# Altium integrated library BMS_Lib.IntLib: 71 symbols (part 2 of 3)
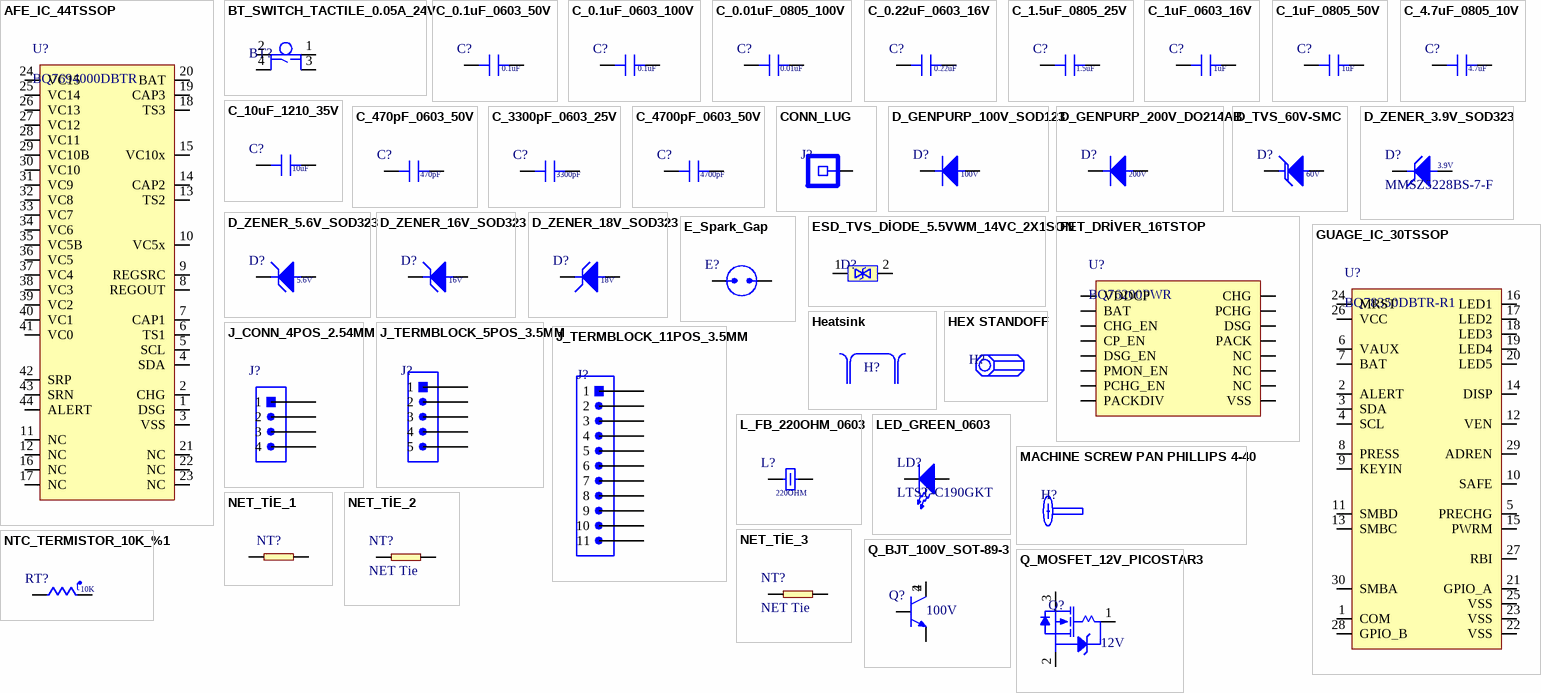
[diagram p2: symbols AFE_IC_44TSSOP to Q_MOSFET_12V_PICOSTAR3]

## J_CONN_4POS_2.54MM
designator J?, comment 0022053041  (value not drawn)
KK 254 Solid Header, Right-Angle, with Friction Lock, 4 Circuits, Tin (Sn) Plating; Manufacturer: Molex; Contact Resistance: 10mR; Max Current Rating: 4A; Voltage Rating: 250V; Number of Positions: 4; Gender: Male; Insulation Resistance: 50GR; Pitch: 2.54mm; Approvals: UL,CSA; Glow Wire Compliant: Non-compliant; Supplier: Mouser; Supplier Part Number: 538-22-05-3041; Manufacturer Part Number: 22-05-3041; RoHS: Yes; Category: Headers and Wire Housings; Stock: 16509; Pricing: 1=0,68, 10=0,597, 50=0,597, 100=0,493, 1000=0,353, 10000=0,31 (USD); Mounting Technology: Through Hole; Contact Plating: Tin,Copper; Contact Material: Brass; Color: White; Housing Color: White; Housing Material: Nylon; Min Operating Temperature: 0°C; Max Operating Temperature: 75°C; Number of Rows: 1; Packaging: Bulk; Current Rating: 4A; Package Quantity: 12000; Contact Gender: Male; Termination: Solder; Number of Contacts: 4; Orientation: Right Angle; Voltage Rating (DC): 250V; Number of Circuits: 4; Fastening Type: Friction; Series: KK® 7478; Contact Type: Male Pin; Length: 10.16mm; Height: 6.35mm; Depth: 12.83mm; Contact Mating Length: 0.264inch; Radiation Hardening: No; Halogen Free: Low Halogen; Lead Free: Lead Free; Flammability Rating: UL94 V-0; RoHS Compliant: Yes; Reach SVHC Compliant: Unknown
footprint CONN_4
pins: 1, 2, 3, 4

## J_TERMBLOCK_5POS_3.5MM
designator J?, comment 0395021005  (value not drawn)
Conn Shrouded Header (4 Sides) HDR 5 POS 3.5mm Solder RA Side Entry Thru-Hole Eurostyle™; Manufacturer: Molex; Number of Circuits: 5; Contact Resistance: 8mR; Number of Levels: 1; Current: 8A; Voltage: 300V; Supplier: Mouser; Supplier Part Number: 538-39502-1005; Manufacturer Part Number: 0395021005; RoHS: Yes; Category: Terminal Blocks; Stock: 4358; Pricing: 1=1,27, 10=1,05, 50=1,05, 100=0,911, 1000=0,767, 10000=0,736 (USD); Mounting Technology: Through Hole; Color: Black; Contact Plating: Tin; Contact Material: Brass; Housing Color: Black; Housing Material: Polyamide; Min Operating Temperature: -40°C; Max Operating Temperature: 105°C; Orientation: Right Angle; Number of Rows: 1; Number of Positions Per Level: 5; Termination: Solder; Number of Positions: 5; Number of Contacts: 5; Series: Eurostyle ESE 39502; Length: 18.89mm; Width: 9.2mm; Pitch: 3.5mm; Depth: 9.2mm; RoHS Compliant: Yes; Reach SVHC Compliant: Yes; ELV: Compliant; Halogen Free: Low Halogen; Lead Free: Lead Free; Flammability Rating: UL94 V-0; ComponentLink1URL: https://datasheet.ciiva.com/796/395021002-sd-796528.pdf?src-supplier=Digikey; ComponentLink1Description: https://datasheet.ciiva.com/796/395021002-sd-796528.pdf?src-supplier=Digikey; ComponentLink2URL: https://datasheet.ciiva.com/30070/193400395021005-terminal-blocks-30070143.pdf?src-supplier=Onlinecomponents.com; ComponentLink2Description: https://datasheet.ciiva.com/30070/193400395021005-terminal-blocks-30070143.pdf?src-supplier=Onlinecomponents.com
footprint TB_5
pins: 1, 2, 3, 4, 5

## J_TERMBLOCK_11POS_3.5MM
designator J?, comment 0395021011  (value not drawn)
Conn Shrouded Header (4 Sides) HDR 11 POS 3.5mm Solder RA Thru-Hole Eurostyle™; Manufacturer: Molex; Contact Resistance: 8mR; Number of Positions: 11; Number of Levels: 1; Current: 8A; Voltage: 300V; Gender: Male; Supplier: Mouser; Supplier Part Number: 538-39502-1011; Manufacturer Part Number: 0395021011; RoHS: Yes; Category: Uncategorized; Stock: 342; Pricing: 1=2,11, 10=1,87, 50=1,84, 100=1,6, 1000=1,48, 10000=1,37 (USD); Contact Plating: Tin; Contact Material: Brass; Housing Color: Black; Housing Material: Polyamide; Color: Black; Min Operating Temperature: -40°C; Max Operating Temperature: 105°C; Number of Rows: 1; Termination: Solder; Orientation: Right Angle; Series: Eurostyle ESE 39502; Number of Positions Per Level: 11; Length: 39.89mm; Pitch: 3.5mm; Depth: 9.2mm; Flammability Rating: UL94 V-0; RoHS Compliant: Yes; ComponentLink1URL: http://components.arrow.com/part/dataview/44158219S9305424N3303?src-supplier=Arrow+Electronics; ComponentLink1Description: http://components.arrow.com/part/dataview/44158219S9305424N3303?src-supplier=Arrow+Electronics; ComponentLink2URL: https://www.molex.com/pdm_docs/sd/395021002_sd.pdf?src-supplier=Digikey; ComponentLink2Description: https://www.molex.com/pdm_docs/sd/395021002_sd.pdf?src-supplier=Digikey
footprint TB_11
pins: 1, 2, 3, 4, 5, 6, 7, 8, 9, 10, 11

## L_FB_220OHM_0603
designator L?, comment value 220OHM  (hidden comment: BLM18SG221TN1D)
Ferrite Beads Multi-Layer 220Ohm 25% 100MHz 2.5A 40mOhm DCR 0603 Paper T/R; Manufacturer: Murata; Material: Steel,Ferrite; Impedance: 220R; DC Resistance (DCR): 40mR; Number of Lines: 1; Supplier: Mouser; Supplier Part Number: 81-BLM18SG221TN1D; Manufacturer Part Number: BLM18SG221TN1D; RoHS: Yes; Category: Ferrite Beads and Chips; Stock: 535751; Pricing: 1=0,13, 10=0,071, 50=0,071, 100=0,049, 1000=0,036, 10000=0,03 (USD); Case/Package: 0603; Pins: 2; Core Material: Ferrite; Case Code (Metric): 1608; Case Code (Imperial): 0603; Weight: 7.1E-05oz; Min Operating Temperature: -55°C; Max Operating Temperature: 125°C; Tolerance: 25%; Max DC Current: 2.5A; Package Quantity: 1; Max Current Rating: 2.5A; Packaging: Tape and Reel; Current Rating: 2.5A; Termination: SMD/SMT; Test Frequency: 100MHz; DC Current: 2.5A; Number of Circuits: 1; Series: BLM18S; DC Resistance-Max: 40mR; RMS Current (Irms): 2.5A; ESR: 40mR; Length: 1.6mm; Width: 0.8mm; Height: 0.8mm; Depth: 0.95mm; Radiation Hardening: No; Reach SVHC Compliant: No; Lead Free: Lead Free; RoHS Compliant: Yes; ComponentLink1URL: https://datasheet.ciiva.com/1561/c31e-1561456.pdf?src-supplier=Newark; ComponentLink1Description: https://datasheet.ciiva.com/1561/c31e-1561456.pdf?src-supplier=Newark; ComponentLink2URL: https://datasheet.ciiva.com/41449/001171724-da-01-en-chip-drossel0603-220r-2500ma-1-6x0-8mm-41449352.pdf?src-supplier=Conrad; ComponentLink2Description: https://datasheet.ciiva.com/41449/001171724-da-01-en-chip-drossel0603-220r-2500ma-1-6x0-8mm-41449352.pdf?src-supplier=Conrad; ComponentLink3URL: https://datasheet.ciiva.com/41449/001172313-da-01-en-drossel-0603-220r-21-6x0-8mm-10000st-41449677.pdf?src-supplier=Conrad; ComponentLink3Description: https://datasheet.ciiva.com/41449/001172313-da-01-en-drossel-0603-220r-21-6x0-8mm-10000st-41449677.pdf?src-supplier=Conrad; ComponentLink4URL: https://datasheet.ciiva.com/14122/blm-series-eng-tds-14122910.pdf?src-supplier=Distrelec; ComponentLink4Description: https://datasheet.ciiva.com/14122/blm-series-eng-tds-14122910.pdf?src-supplier=Distrelec; ComponentLink5URL: https://datasheet.ciiva.com/8508/l0110s0100blm18s-8508310.pdf?src-supplier=Avnet; ComponentLink5Description: https://datasheet.ciiva.com/8508/l0110s0100blm18s-8508310.pdf?src-supplier=Avnet; ComponentLink6URL: https://datasheet.ciiva.com/8021/5151-8021517.pdf?src-supplier=Element14; ComponentLink6Description: https://datasheet.ciiva.com/8021/5151-8021517.pdf?src-supplier=Element14; ComponentLink7URL: https://datasheet.ciiva.com/8021/5151-8021519.pdf?src-supplier=Element14; ComponentLink7Description: https://datasheet.ciiva.com/8021/5151-8021519.pdf?src-supplier=Element14; ComponentLink8URL: https://datasheet.ciiva.com/1012/l0110s0100blm18s-1012627.pdf?src-supplier=Digikey; ComponentLink8Description: https://datasheet.ciiva.com/1012/l0110s0100blm18s-1012627.pdf?src-supplier=Digikey; ComponentLink9URL: https://datasheet.ciiva.com/1012/l0110s0100blm18s-1012626.pdf?src-supplier=Digikey; ComponentLink9Description: https://datasheet.ciiva.com/1012/l0110s0100blm18s-1012626.pdf?src-supplier=Digikey; ComponentLink10URL: https://datasheet.ciiva.com/1012/l0110s0100blm18s-1012628.pdf?src-supplier=Digikey; ComponentLink10Description: https://datasheet.ciiva.com/1012/l0110s0100blm18s-1012628.pdf?src-supplier=Digikey; ComponentLink11URL: https://datasheet.ciiva.com/16204/l0110s0100blm18s-16204029.pdf?src-supplier=Future+Electronics; ComponentLink11Description: https://datasheet.ciiva.com/16204/l0110s0100blm18s-16204029.pdf?src-supplier=Future+Electronics
footprint L_0603
pins: 1, 2

## LED_GREEN_0603
designator LD?, comment LTST-C190GKT
LED Uni-Color Green 565nm 2-Pin Chip LED T/R; Manufacturer: Vishay Lite-On; Lens Color: Colorless; Luminous Intensity: 6mcd; Forward Voltage: 2.1V; Viewing Angle: 130°; Lens Style: Flat,Diffused,Colorless,Rectangular,Clear; Forward Current: 30mA; Dominant Wavelength: 569nm; Test Current: 10mA; Lens Transparency: Clear; Number of Elements: 1; Power Dissipation: 100mW; Reverse Voltage: 5V; Voltage: 2V; Lens Size: 0.8mm; Supplier: Future Electronics; Supplier Part Number: 3106685; Manufacturer Part Number: LTST-C190GKT; RoHS: Yes; Category: LEDs; Stock: 190; Pricing: 1=0,184, 15=0,137, 100=0,104, 400=0,0802, 2000=0,0524 (USD); Mounting Technology: Surface Mount; Case/Package: 0603; Pins: 2; Color: Green; Case Code (Metric): 1608; Case Code (Imperial): 0603; Min Operating Temperature: -55°C; Max Operating Temperature: 85°C; Package Quantity: 1; Packaging: Tape and Reel; Illumination Color: Green; Wavelength: 565nm; Number of LEDs: 1; Power Rating: 100mW; Series: -; Length: 1.6mm; Width: 0.8mm; Height: 0.9mm; Depth: 0.8mm; Radiation Hardening: No; Lead Free: Lead Free; RoHS Compliant: Yes; ComponentLink1URL: https://datasheet.ciiva.com/2109/ltst-c190gkt-2109985.pdf?src-supplier=Digikey; ComponentLink1Description: https://datasheet.ciiva.com/2109/ltst-c190gkt-2109985.pdf?src-supplier=Digikey; ComponentLink2URL: https://datasheet.ciiva.com/11775/0900766b80dc02a6-11775616.pdf?src-supplier=Rs; ComponentLink2Description: https://datasheet.ciiva.com/11775/0900766b80dc02a6-11775616.pdf?src-supplier=Rs; ComponentLink3URL: https://datasheet.ciiva.com/12403/lite-on-ltst-c190gkt-187204-12403884.pdf?src-supplier=Mouser; ComponentLink3Description: https://datasheet.ciiva.com/12403/lite-on-ltst-c190gkt-187204-12403884.pdf?src-supplier=Mouser; ComponentLink4URL: https://datasheet.ciiva.com/16392/lite-on20ltst-c190gkt-16392818.pdf?src-supplier=Future+Electronics; ComponentLink4Description: https://datasheet.ciiva.com/16392/lite-on20ltst-c190gkt-16392818.pdf?src-supplier=Future+Electronics; ComponentLink5URL: https://datasheet.ciiva.com/2109/ltst-c190gkt-2109986.pdf?src-supplier=Digikey; ComponentLink5Description: https://datasheet.ciiva.com/2109/ltst-c190gkt-2109986.pdf?src-supplier=Digikey; ComponentLink6URL: https://datasheet.ciiva.com/2109/ltst-c190gkt-2109987.pdf?src-supplier=Digikey; ComponentLink6Description: https://datasheet.ciiva.com/2109/ltst-c190gkt-2109987.pdf?src-supplier=Digikey
footprint LED_0603
pins: 1, 2

## MACHINE SCREW PAN PHILLIPS 4-40
designator H?, comment NY PMS 440 0025 PH  (value not drawn)
Machine Screw Pan Phillips 4-40; Manufacturer: Building Fasteners; Supplier: Digikey; Supplier Part Number: H542-ND; Manufacturer Part Number: NY PMS 440 0025 PH; RoHS: No; Category: Screws and Fasteners; Stock: 49239; Pricing: 100=0,1653, 1000=0,13225 (USD); ComponentLink1URL: http://www.fasnetdirect.com/refguide/Nylpanms.pdf?src-supplier=Digikey; ComponentLink1Description: http://www.fasnetdirect.com/refguide/Nylpanms.pdf?src-supplier=Digikey
footprint PEN

## NET_TİE_1
designator NT?, comment Net Tie  (value not drawn)  (net tie)
Single point connection between nets.
footprint NET_TİE_1
pins: 1, 2

## NET_TİE_2
designator NT?, comment NET Tie  (net tie)
Single point connection between nets.
footprint NET_TİE_2
pins: 1, 2

## NET_TİE_3
designator NT?, comment NET Tie  (net tie)
Single point connection between nets.
footprint NET_TİE_3
pins: 1, 2

## NTC_TERMISTOR_10K_%1
designator RT?, comment value 10K  (hidden comment: 103AT-2)
Thermistor NTC 10KOhm 1% 2-Pin; Manufacturer: Semitec; Supplier: Mouser; Supplier Part Number: 954-103AT-2; Manufacturer Part Number: 103AT-2; RoHS: Yes; Category: Thermistors; Stock: 31131; Pricing: 1=0,84, 10=0,64, 50=0,64, 100=0,453, 1000=0,344, 10000=0,282 (USD); Case/Package: 72Case; Pins: 2; Min Operating Temperature: -50°C; Max Operating Temperature: 110°C; Packaging: Bulk; Tolerance: 1%; Termination: Radial; Series: AT; Length: 17mm; Width: 3.7mm; Height: 2.4mm; Lead Pitch: 2.54mm; RoHS Compliant: Yes; ComponentLink1URL: https://datasheet.ciiva.com/4505/semitec-atthermistor-371460-4505142.pdf?src-supplier=Mouser; ComponentLink1Description: https://datasheet.ciiva.com/4505/semitec-atthermistor-371460-4505142.pdf?src-supplier=Mouser
footprint NTC
pins: 1, 2
text: t

## Q_BJT_100V_SOT-89-3
designator Q?, comment Voltage: 100V  (hidden comment: ZXTN19100CZTA)
TRANS NPN 100V 5.25A SOT89; Manufacturer: Diodes Zetex; Supplier: Mouser; Supplier Part Number: 621-ZXTN19100CZTA; Manufacturer Part Number: ZXTN19100CZTA; RoHS: Yes; Category: BJTs; Stock: 1677; Pricing: 1=0,63, 10=0,551, 50=0,551, 100=0,401, 1000=0,319, 10000=0,283 (USD); ComponentLink1URL: https://datasheet.ciiva.com/980/zxtn19100cz-980400.pdf?src-supplier=Digikey; ComponentLink1Description: https://datasheet.ciiva.com/980/zxtn19100cz-980400.pdf?src-supplier=Digikey; ComponentLink2URL: https://datasheet.ciiva.com/11207/zxtn19100cz-11207318.pdf?src-supplier=Avnet; ComponentLink2Description: https://datasheet.ciiva.com/11207/zxtn19100cz-11207318.pdf?src-supplier=Avnet; ComponentLink3URL: https://datasheet.ciiva.com/980/zxtn19100cz-980401.pdf?src-supplier=Digikey; ComponentLink3Description: https://datasheet.ciiva.com/980/zxtn19100cz-980401.pdf?src-supplier=Digikey; ComponentLink4URL: https://datasheet.ciiva.com/980/zxtn19100cz-980402.pdf?src-supplier=Digikey; ComponentLink4Description: https://datasheet.ciiva.com/980/zxtn19100cz-980402.pdf?src-supplier=Digikey
footprint Q_SOT-89-3
pins: 1 B, 2 C, 3 E, 4 C

## Q_MOSFET_12V_PICOSTAR3
designator Q?, comment Voltage: 12V  (hidden comment: CSD13381F4)
MOSFET N-CH 12V 2.1A 3PICOSTAR / Trans MOSFET N-CH 12V 2.1A 3-Pin PicoStar T/R; Manufacturer: Texas Instruments; Supplier: Mouser; Supplier Part Number: 595-CSD13381F4; Manufacturer Part Number: CSD13381F4; RoHS: Yes; Category: MOSFETs; Stock: 84819; Pricing: 1=0,36, 10=0,274, 50=0,274, 100=0,155, 1000=0,078, 10000=0,054 (USD); ComponentLink1URL: https://datasheet.ciiva.com/29742/csd13381f4-29742944.pdf?src-supplier=Digikey; ComponentLink1Description: https://datasheet.ciiva.com/29742/csd13381f4-29742944.pdf?src-supplier=Digikey; ComponentLink2URL: https://datasheet.ciiva.com/30021/csd13381f4-30021964.pdf?src-supplier=Avnet; ComponentLink2Description: https://datasheet.ciiva.com/30021/csd13381f4-30021964.pdf?src-supplier=Avnet
footprint Q_3PICOSTAR
pins: 1 G, 2 S, 3 D

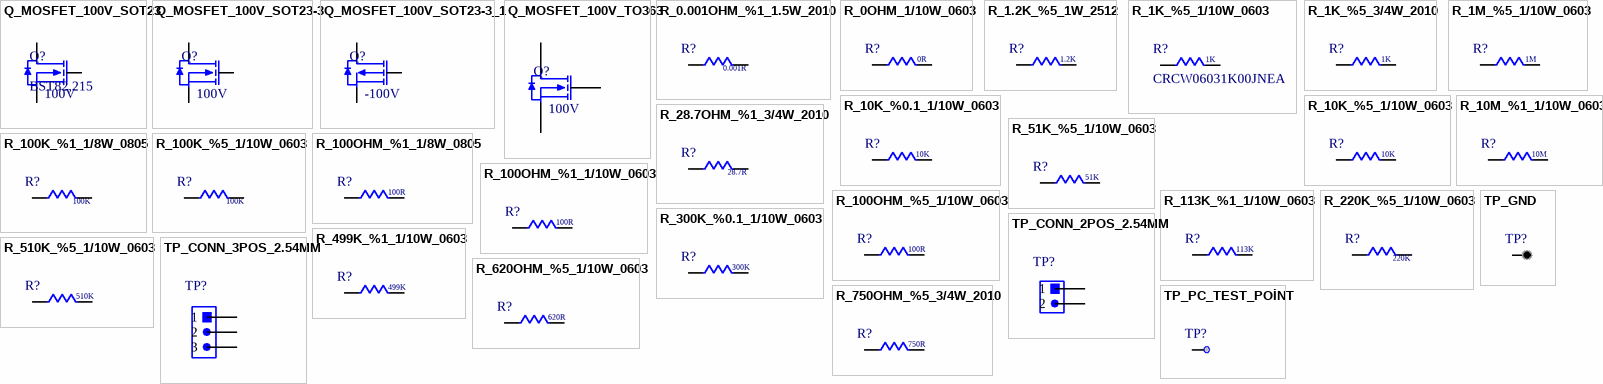
[diagram p1: symbols Q_MOSFET_100V_SOT23 to TP_PC_TEST_POİNT]

## Q_MOSFET_100V_SOT23
designator Q?, comment BST82,215  Voltage: 100V
MOSFET N-CH 100V 190MA SOT-23; Manufacturer: Nexperia; Supplier: Digikey; Supplier Part Number: 1727-4937-6-ND; Manufacturer Part Number: BST82,215; RoHS: Yes; Category: MOSFETs; Stock: 30276; Pricing: 1=0,38, 10=0,295, 100=0,1773, 500=0,16412, 1000=0,1116 (USD); ComponentLink1URL: http://www.farnell.com/datasheets/66837.pdf?src-supplier=Farnell; ComponentLink1Description: http://www.farnell.com/datasheets/66837.pdf?src-supplier=Farnell; ComponentLink2URL: http://www.farnell.com/datasheets/2871798.pdf?src-supplier=Farnell; ComponentLink2Description: http://www.farnell.com/datasheets/2871798.pdf?src-supplier=Farnell; ComponentLink3URL: https://datasheet.octopart.com/BST82%2C215-Nexperia-datasheet-8366983.pdf?src-supplier=Newark; ComponentLink3Description: https://datasheet.octopart.com/BST82%2C215-Nexperia-datasheet-8366983.pdf?src-supplier=Newark; ComponentLink4URL: http://www.farnell.com/datasheets/2871798.pdf?src-supplier=Newark; ComponentLink4Description: http://www.farnell.com/datasheets/2871798.pdf?src-supplier=Newark; ComponentLink5URL: https://assets.nexperia.com/documents/data-sheet/BST82.pdf?src-supplier=Digikey; ComponentLink5Description: https://assets.nexperia.com/documents/data-sheet/BST82.pdf?src-supplier=Digikey
footprint Q_SOT23-3
pins: 1 G, 2 S, 3 D

## Q_MOSFET_100V_SOT23-3
designator Q?, comment Voltage: 100V  (hidden comment: BSS123)
Transistor MOSFET Negative Channel 100 Volt 0.17A 3-Pin SOT-23; Manufacturer: ON Semiconductor / Fairchild; Number of Channels: 1NUMBER; Supplier: Future Electronics; Supplier Part Number: 1056753; Manufacturer Part Number: BSS123; RoHS: Yes; Category: MOSFETs; Stock: 351000; Pricing: 3000=0,0465, 9000=0,0447, 15000=0,0439, 30000=0,0429, 60000=0,0412 (USD)
footprint Q_SOT23-3
pins: 1 G, 2 S, 3 D

## Q_MOSFET_100V_SOT23-3_1
designator Q?, comment Voltage Rating (DC): -100V  (hidden comment: ZXMP10A13FTA)
P-Channel 100 V 1 Ohm Surface Mount Enhancement Mode MOSFET - SOT-23; Manufacturer: Diodes Zetex; Current Rating: -500mA; Supplier: Future Electronics; Supplier Part Number: 3181252; Manufacturer Part Number: ZXMP10A13FTA; RoHS: Yes; Category: MOSFETs; Stock: 1053000; Pricing: 3000=0,16, 6000=0,157, 9000=0,155, 12000=0,154, 15000=0,15 (USD); Lead Free: 5697LeadFree; ComponentLink1URL: https://datasheet.ciiva.com/6383/zxmp10a13f-6383089.pdf?src-supplier=Digikey; ComponentLink1Description: https://datasheet.ciiva.com/6383/zxmp10a13f-6383089.pdf?src-supplier=Digikey; ComponentLink2URL: https://datasheet.ciiva.com/11175/zxmp10a13f-11175011.pdf?src-supplier=Avnet; ComponentLink2Description: https://datasheet.ciiva.com/11175/zxmp10a13f-11175011.pdf?src-supplier=Avnet; ComponentLink3URL: https://datasheet.ciiva.com/17097/zxmp10a13fta-17097946.pdf?src-supplier=Allied+Electronics; ComponentLink3Description: https://datasheet.ciiva.com/17097/zxmp10a13fta-17097946.pdf?src-supplier=Allied+Electronics; ComponentLink4URL: https://datasheet.ciiva.com/16387/zxmp10a13f-16387581.pdf?src-supplier=Future+Electronics; ComponentLink4Description: https://datasheet.ciiva.com/16387/zxmp10a13f-16387581.pdf?src-supplier=Future+Electronics; ComponentLink5URL: https://datasheet.ciiva.com/22712/1915646-22712428.pdf?src-supplier=Element14; ComponentLink5Description: https://datasheet.ciiva.com/22712/1915646-22712428.pdf?src-supplier=Element14; ComponentLink6URL: https://datasheet.ciiva.com/6383/zxmp10a13f-6383087.pdf?src-supplier=Digikey; ComponentLink6Description: https://datasheet.ciiva.com/6383/zxmp10a13f-6383087.pdf?src-supplier=Digikey
footprint Q_SOT23-3
pins: 1 G, 2 S, 3 D

## Q_MOSFET_100V_TO363
designator Q?, comment Voltage: 100V  (hidden comment: CSD19536KTT)
100-V, N channel NexFET™ power MOSFET, single D2PAK, 2.4 mOhm 3-DDPAK/TO-263 -55 to 175; Manufacturer: Texas Instruments; Supplier: Mouser; Supplier Part Number: 595-CSD19536KTT; Manufacturer Part Number: CSD19536KTT; RoHS: Yes; Category: MOSFETs; Stock: 1933; Pricing: 1=4,44, 10=3,73, 50=3,73, 100=3,02, 1000=2,29, 10000=2,16 (USD); ComponentLink1URL: http://www.ti.com/lit/gpn/csd19536ktt?src-supplier=Mouser; ComponentLink1Description: http://www.ti.com/lit/gpn/csd19536ktt?src-supplier=Mouser; ComponentLink2URL: http://www.ti.com/general/docs/lit/getliterature.tsp?genericPartNumber=CSD19536KTT&&fileType=pdf&src-supplier=Avnet; ComponentLink2Description: http://www.ti.com/general/docs/lit/getliterature.tsp?genericPartNumber=CSD19536KTT&&fileType=pdf&src-supplier=Avnet; ComponentLink3URL: http://www.ti.com/lit/ds/symlink/csd19536ktt.pdf?src-supplier=Digikey; ComponentLink3Description: http://www.ti.com/lit/ds/symlink/csd19536ktt.pdf?src-supplier=Digikey; ComponentLink4URL: http://www.ti.com/general/docs/suppproductinfo.tsp?distId=10&amp;gotoUrl=http%3A%2F%2Fwww.ti.com%2Flit%2Fgpn%2Fcsd19536ktt&src-supplier=Digikey; ComponentLink4Description: http://www.ti.com/general/docs/suppproductinfo.tsp?distId=10&amp;gotoUrl=http%3A%2F%2Fwww.ti.com%2Flit%2Fgpn%2Fcsd19536ktt&src-supplier=Digikey
footprint Q_DDPAK
pins: 1 G, 2 D, 3 S

## R_0.001OHM_%1_1.5W_2010
designator R?, comment value 0.001R  (hidden comment: CSNL2010FT1L00)
Res Metal Foil 2010 0.001 Ohm 1% 1.5W ±50ppm/°C Molded SMD SMD Plastic T/R; Manufacturer: Stackpole Electronics; Supplier: Mouser; Supplier Part Number: 708-CSNL2010FT1L00; Manufacturer Part Number: CSNL2010FT1L00; RoHS: Yes; Category: Chip SMD Resistors; Stock: 25876; Pricing: 1=0,56, 10=0,382, 50=0,382, 100=0,316, 1000=0,193, 10000=0,177 (USD); ComponentLink1URL: https://www.seielect.com/catalog/sei-csnl.pdf?src-supplier=Digikey; ComponentLink1Description: https://www.seielect.com/catalog/sei-csnl.pdf?src-supplier=Digikey; ComponentLink2URL: https://www.seielect.com/catalog/SEI-Packaging.pdf?src-supplier=Digikey; ComponentLink2Description: https://www.seielect.com/catalog/SEI-Packaging.pdf?src-supplier=Digikey; ComponentLink3URL: https://www.seielect.com/Catalog/SEI-CSNL.pdf?src-supplier=Avnet; ComponentLink3Description: https://www.seielect.com/Catalog/SEI-CSNL.pdf?src-supplier=Avnet
footprint R_2010
pins: 1, 2

## R_0OHM_1/10W_0603
designator R?, comment value 0R  (hidden comment: CRCW06030000Z0EA)
Zero Ohm Resistor, Jumper, 0603 [1608 Metric], Thick Film, 330 mW, 5 A, Surface Mount; Manufacturer: Vishay Dale; Manufacturer Part Number: CRCW06030000Z0EAHP; Power Rating: 250mW; Voltage Rating: 75V; Temperature Coefficient: 0ppm/°C; Supplier: Mouser; Supplier Part Number: 71-CRCW06030000Z0EAH; RoHS: Yes; Category: Chip SMD Resistors; Stock: 1018937; Pricing: 1=0,14, 10=0,068, 50=0,068, 100=0,03, 1000=0,021, 10000=0,014 (USD); Case/Package: 0603; Pins: 2; Contact Plating: Tin; Case Code (Metric): 1608; Case Code (Imperial): 0603; Weight: 7.1E-05oz; Min Operating Temperature: -55°C; Max Operating Temperature: 155°C; Packaging: Tape and Reel; Resistor Type: Thick Film; Number of Terminations: 2; Termination: SMD/SMT; Max Power Dissipation: 250mW; Features: Automotive AEC-Q200; Series: CRCW-HP; Voltage Rating (DC): 75V; Package Quantity: 5000; Technology: THICK FILM; Construction: Rectangular; Length: 1.6mm; Width: 0.033inch; Height: 0.45mm; Depth: 0.85mm; Ratings: AEC-Q200; Radiation Hardening: No; Lead Free: 5697LeadFree; RoHS Compliant: Yes; Reach SVHC Compliant: Unknown; Military Standard: Not; ComponentLink1URL: https://datasheet.ciiva.com/8340/crcwhpe3-8340198.pdf?src-supplier=Avnet; ComponentLink1Description: https://datasheet.ciiva.com/8340/crcwhpe3-8340198.pdf?src-supplier=Avnet; ComponentLink2URL: https://datasheet.ciiva.com/16430/crcwhpe3-16430059.pdf?src-supplier=Future+Electronics; ComponentLink2Description: https://datasheet.ciiva.com/16430/crcwhpe3-16430059.pdf?src-supplier=Future+Electronics; ComponentLink3URL: https://datasheet.ciiva.com/2472/crcwhpe3-2472034.pdf?src-supplier=Digikey; ComponentLink3Description: https://datasheet.ciiva.com/2472/crcwhpe3-2472034.pdf?src-supplier=Digikey; ComponentLink4URL: https://datasheet.ciiva.com/2472/crcwhpe3-2472035.pdf?src-supplier=Digikey; ComponentLink4Description: https://datasheet.ciiva.com/2472/crcwhpe3-2472035.pdf?src-supplier=Digikey; ComponentLink5URL: https://datasheet.ciiva.com/2472/crcwhpe3-2472033.pdf?src-supplier=Digikey; ComponentLink5Description: https://datasheet.ciiva.com/2472/crcwhpe3-2472033.pdf?src-supplier=Digikey; ComponentLink6URL: https://datasheet.ciiva.com/28621/1912814-28621358.pdf?src-supplier=Element14; ComponentLink6Description: https://datasheet.ciiva.com/28621/1912814-28621358.pdf?src-supplier=Element14
footprint R_0603
pins: 1, 2

## R_1.2K_%5_1W_2512
designator R?, comment value 1.2K  (hidden comment: CRCW25121K20JNEG)
Res Thick Film 2512 1.2K Ohm 5% 1W ±200ppm/°C Molded SMD SMD Blister T/R; Manufacturer: Vishay; Voltage Rating (DC): 500V; Supplier: Mouser; Supplier Part Number: 71-CRCW2512J-1.2K-E3; Manufacturer Part Number: CRCW25121K20JNEG; RoHS: Yes; Category: Chip SMD Resistors; Stock: 9658; Pricing: 1=0,32, 10=0,116, 50=0,116, 100=0,074, 1000=0,049, 10000=0,037 (USD); Lead Free: 5697LeadFree; ComponentLink1URL: https://datasheet.ciiva.com/16435/dcrcwe3-16435709.pdf?src-supplier=Future+Electronics; ComponentLink1Description: https://datasheet.ciiva.com/16435/dcrcwe3-16435709.pdf?src-supplier=Future+Electronics; ComponentLink2URL: https://datasheet.ciiva.com/2478/dcrcwe3-2478879.pdf?src-supplier=Digikey; ComponentLink2Description: https://datasheet.ciiva.com/2478/dcrcwe3-2478879.pdf?src-supplier=Digikey; ComponentLink3URL: https://datasheet.ciiva.com/2478/dcrcwe3-2478880.pdf?src-supplier=Digikey; ComponentLink3Description: https://datasheet.ciiva.com/2478/dcrcwe3-2478880.pdf?src-supplier=Digikey; ComponentLink4URL: https://datasheet.ciiva.com/2478/dcrcwe3-2478881.pdf?src-supplier=Digikey; ComponentLink4Description: https://datasheet.ciiva.com/2478/dcrcwe3-2478881.pdf?src-supplier=Digikey; ComponentLink5URL: https://datasheet.ciiva.com/9105/dcrcwe3-9105484.pdf?src-supplier=Avnet; ComponentLink5Description: https://datasheet.ciiva.com/9105/dcrcwe3-9105484.pdf?src-supplier=Avnet; ComponentLink6URL: https://datasheet.ciiva.com/7777/1533075-7777606.pdf?src-supplier=Element14; ComponentLink6Description: https://datasheet.ciiva.com/7777/1533075-7777606.pdf?src-supplier=Element14; ComponentLink7URL: https://datasheet.ciiva.com/5541/dcrcwe3-109170-5541887.pdf?src-supplier=Mouser; ComponentLink7Description: https://datasheet.ciiva.com/5541/dcrcwe3-109170-5541887.pdf?src-supplier=Mouser
footprint R_2512
pins: 1, 2

## R_1K_%5_1/10W_0603
designator R?, comment CRCW06031K00JNEA  value 1K
SMD Chip Resistor, 1 kOhm, ± 5%, 100 mW, 0603 [1608 Metric], Thick Film, General Purpose; Manufacturer: Vishay Dale; Temperature Coefficient: 200ppm/°C; Voltage Rating (DC): 75V; Power Rating: 100mW; Supplier: Mouser; Supplier Part Number: 71-CRCW0603J-1.0K-E3; Manufacturer Part Number: CRCW06031K00JNEA; RoHS: Yes; Category: Chip SMD Resistors; Stock: 120124; Pricing: 1=0,1, 10=0,016, 50=0,016, 100=0,009, 1000=0,006, 10000=0,003 (USD); Case/Package: 0603; Pins: 2; Contact Plating: Tin; Case Code (Metric): 1608; Case Code (Imperial): 0603; Weight: 7.1E-05oz; Min Operating Temperature: -55°C; Max Operating Temperature: 155°C; Tolerance: 5%; Resistor Type: Thick Film; Packaging: Tape and Reel; Package Quantity: 1; Voltage Rating: 75V; Number of Terminations: 2; Termination: SMD/SMT; Max Power Dissipation: 100mW; Features: Automotive AEC-Q200; Series: CRCW; Resistance Tolerance: 5%; Construction: Rectangular; Length: 1.55mm; Width: 0.033inch; Height: 0.02inch; Depth: 0.85mm; Radiation Hardening: No; Lead Free: Lead Free; RoHS Compliant: Yes; Reach SVHC Compliant: Unknown; Military Standard: Not; ComponentLink1URL: https://datasheet.ciiva.com/46441/1533075-46441625.pdf?src-supplier=Element14; ComponentLink1Description: https://datasheet.ciiva.com/46441/1533075-46441625.pdf?src-supplier=Element14; ComponentLink2URL: https://datasheet.ciiva.com/28621/1847332-28621386.pdf?src-supplier=Element14; ComponentLink2Description: https://datasheet.ciiva.com/28621/1847332-28621386.pdf?src-supplier=Element14; ComponentLink3URL: https://datasheet.ciiva.com/2462/dcrcwe3-2462023.pdf?src-supplier=Digikey; ComponentLink3Description: https://datasheet.ciiva.com/2462/dcrcwe3-2462023.pdf?src-supplier=Digikey; ComponentLink4URL: https://datasheet.ciiva.com/2462/dcrcwe3-2462024.pdf?src-supplier=Digikey; ComponentLink4Description: https://datasheet.ciiva.com/2462/dcrcwe3-2462024.pdf?src-supplier=Digikey; ComponentLink5URL: https://datasheet.ciiva.com/2462/dcrcwe3-2462022.pdf?src-supplier=Digikey; ComponentLink5Description: https://datasheet.ciiva.com/2462/dcrcwe3-2462022.pdf?src-supplier=Digikey; ComponentLink6URL: https://datasheet.ciiva.com/5548/dcrcwe3-109170-5548152.pdf?src-supplier=Mouser; ComponentLink6Description: https://datasheet.ciiva.com/5548/dcrcwe3-109170-5548152.pdf?src-supplier=Mouser; ComponentLink7URL: https://datasheet.ciiva.com/16211/dcrcwe3-16211589.pdf?src-supplier=Future+Electronics; ComponentLink7Description: https://datasheet.ciiva.com/16211/dcrcwe3-16211589.pdf?src-supplier=Future+Electronics
footprint R_0603
pins: 1, 2

## R_1K_%5_3/4W_2010
designator R?, comment value 1K  (hidden comment: CRCW20101K00JNEF)
Res Thick Film 2010 1K Ohm 5% 0.75W(3/4W) ±200ppm/°C Pad SMD Automotive T/R; Manufacturer: Vishay Dale; Supplier: Mouser; Supplier Part Number: 71-CRCW2010J-1K-E3; Manufacturer Part Number: CRCW20101K00JNEF; RoHS: Yes; Category: Chip SMD Resistors; Stock: 11217; Pricing: 1=0,26, 10=0,093, 50=0,093, 100=0,059, 1000=0,045, 10000=0,034 (USD); ComponentLink1URL: https://datasheet.ciiva.com/7695/1778090-7695006.pdf?src-supplier=Element14; ComponentLink1Description: https://datasheet.ciiva.com/7695/1778090-7695006.pdf?src-supplier=Element14; ComponentLink2URL: https://datasheet.ciiva.com/2476/dcrcwe3-2476404.pdf?src-supplier=Digikey; ComponentLink2Description: https://datasheet.ciiva.com/2476/dcrcwe3-2476404.pdf?src-supplier=Digikey; ComponentLink3URL: https://datasheet.ciiva.com/2476/dcrcwe3-2476405.pdf?src-supplier=Digikey; ComponentLink3Description: https://datasheet.ciiva.com/2476/dcrcwe3-2476405.pdf?src-supplier=Digikey; ComponentLink4URL: https://datasheet.ciiva.com/2476/dcrcwe3-2476406.pdf?src-supplier=Digikey; ComponentLink4Description: https://datasheet.ciiva.com/2476/dcrcwe3-2476406.pdf?src-supplier=Digikey; ComponentLink5URL: https://datasheet.ciiva.com/9112/dcrcwe3-9112279.pdf?src-supplier=Avnet; ComponentLink5Description: https://datasheet.ciiva.com/9112/dcrcwe3-9112279.pdf?src-supplier=Avnet; ComponentLink6URL: https://datasheet.ciiva.com/22868/70201119-22868952.pdf?src-supplier=Allied+Electronics; ComponentLink6Description: https://datasheet.ciiva.com/22868/70201119-22868952.pdf?src-supplier=Allied+Electronics; ComponentLink7URL: https://datasheet.ciiva.com/48527/dcrcwe3-48527642.pdf?src-supplier=Avnet; ComponentLink7Description: https://datasheet.ciiva.com/48527/dcrcwe3-48527642.pdf?src-supplier=Avnet
footprint R_2010
pins: 1, 2

## R_1M_%5_1/10W_0603
designator R?, comment value 1M  (hidden comment: CRCW06031M00JNEA)
SMD Chip Resistor, 1 MOhm, ± 5%, 100 mW, 0603 [1608 Metric], Thick Film, General Purpose; Manufacturer: Vishay Dale; Temperature Coefficient: 200ppm/°C; Power Rating: 100mW; Voltage Rating: 75V; Supplier: Mouser; Supplier Part Number: 71-CRCW0603J-1.0M-E3; Manufacturer Part Number: CRCW06031M00JNEA; RoHS: Yes; Category: Chip SMD Resistors; Stock: 24009; Pricing: 1=0,1, 10=0,014, 50=0,014, 100=0,009, 1000=0,007, 10000=0,003 (USD); Case/Package: 0603; Pins: 2; Contact Plating: Tin; Weight: 7.1E-05oz; Case Code (Imperial): 0603; Case Code (Metric): 1608; Min Operating Temperature: -55°C; Max Operating Temperature: 155°C; Tolerance: 5%; Packaging: Tape and Reel; Package Quantity: 5000; Termination: SMD/SMT; Resistor Type: Thick Film; Number of Terminations: 2; Max Power Dissipation: 100mW; Features: Automotive AEC-Q200; Series: CRCW; Construction: Rectangular; Resistance Tolerance: 5%; Length: 1.55mm; Width: 0.85mm; Height: 0.45mm; Depth: 0.85mm; Ratings: AEC-Q200; Radiation Hardening: No; RoHS Compliant: Yes; Lead Free: 5697LeadFree; Military Standard: Not; Reach SVHC Compliant: Unknown; ComponentLink1URL: https://datasheet.ciiva.com/2462/dcrcwe3-2462062.pdf?src-supplier=Digikey; ComponentLink1Description: https://datasheet.ciiva.com/2462/dcrcwe3-2462062.pdf?src-supplier=Digikey; ComponentLink2URL: https://datasheet.ciiva.com/2462/dcrcwe3-2462063.pdf?src-supplier=Digikey; ComponentLink2Description: https://datasheet.ciiva.com/2462/dcrcwe3-2462063.pdf?src-supplier=Digikey; ComponentLink3URL: https://datasheet.ciiva.com/2462/dcrcwe3-2462061.pdf?src-supplier=Digikey; ComponentLink3Description: https://datasheet.ciiva.com/2462/dcrcwe3-2462061.pdf?src-supplier=Digikey; ComponentLink4URL: https://datasheet.ciiva.com/5546/dcrcwe3-109170-5546629.pdf?src-supplier=Mouser; ComponentLink4Description: https://datasheet.ciiva.com/5546/dcrcwe3-109170-5546629.pdf?src-supplier=Mouser; ComponentLink5URL: https://datasheet.ciiva.com/3257/dcrcwe3-3257206.pdf?src-supplier=Avnet; ComponentLink5Description: https://datasheet.ciiva.com/3257/dcrcwe3-3257206.pdf?src-supplier=Avnet; ComponentLink6URL: https://datasheet.ciiva.com/16351/dcrcwe3-16351110.pdf?src-supplier=Future+Electronics; ComponentLink6Description: https://datasheet.ciiva.com/16351/dcrcwe3-16351110.pdf?src-supplier=Future+Electronics; ComponentLink7URL: https://datasheet.ciiva.com/3257/dcrcwe3-3257205.pdf?src-supplier=Avnet; ComponentLink7Description: https://datasheet.ciiva.com/3257/dcrcwe3-3257205.pdf?src-supplier=Avnet
footprint R_0603
pins: 1, 2

## R_10K_%0.1_1/10W_0603
designator R?, comment value 10K  (hidden comment: RG1608P-103-B-T5)
Res Thin Film 0603 10K Ohm 0.1% 0.1W(1/10W) ±25ppm/C Sulfur Resistant Pad SMD Automotive T/R; Manufacturer: Susumu; Power Rating: 100mW; Voltage Rating: 100V; Temperature Coefficient: 25ppm/°C; Voltage Rating (DC): 75V; Supplier: Future Electronics; Supplier Part Number: 6000172; Manufacturer Part Number: RG1608P-103-B-T5; RoHS: Yes; Category: Chip SMD Resistors; Stock: 235000; Pricing: 5000=0,0666, 10000=0,065, 15000=0,0514, 20000=0,0634, 25000=0,0629, 75000=0,0599 (USD); Case/Package: 0603; Case Code (Imperial): 0603; Case Code (Metric): 1608; Weight: 7.1E-05oz; Min Operating Temperature: -55°C; Max Operating Temperature: 155°C; Tolerance: 0.1%; Packaging: Tape and Reel; Termination: SMD/SMT; Features: Automotive AEC-Q200,Anti-Sulfur; Series: RG; Max Power Dissipation: 100mW; Number of Terminations: 2; Length: 1.6mm; Width: 0.8mm; Height: 0.4mm; RoHS Compliant: Yes; Lead Free: 5697LeadFree; ComponentLink1URL: https://datasheet.ciiva.com/26874/getdatasheetpartid-697968-26874044.pdf?src-supplier=Verical; ComponentLink1Description: https://datasheet.ciiva.com/26874/getdatasheetpartid-697968-26874044.pdf?src-supplier=Verical; ComponentLink2URL: https://datasheet.ciiva.com/5624/rg-rm-rgh-datasheet-5624714.pdf?src-supplier=Mouser; ComponentLink2Description: https://datasheet.ciiva.com/5624/rg-rm-rgh-datasheet-5624714.pdf?src-supplier=Mouser
footprint R_0603
pins: 1, 2

## R_10K_%5_1/10W_0603
designator R?, comment value 10K  (hidden comment: CRCW060310K0JNEA)
SMD Chip Resistor, 10 kOhm, ± 5%, 100 mW, 0603 [1608 Metric], Thick Film, General Purpose; Manufacturer: Vishay Dale; Temperature Coefficient: 200ppm/°C; Voltage Rating (DC): 75V; Power Rating: 100mW; Supplier: Mouser; Supplier Part Number: 71-CRCW0603J-10K-E3; Manufacturer Part Number: CRCW060310K0JNEA; RoHS: Yes; Category: Chip SMD Resistors; Stock: 615842; Pricing: 1=0,1, 10=0,016, 50=0,016, 100=0,009, 1000=0,006, 10000=0,004 (USD); Mounting Technology: Surface Mount; Case/Package: 0603; Pins: 2NUMBER; Case Code (Metric): 1608; Case Code (Imperial): 0603; Contact Plating: Tin; Weight: 7.1E-05oz; Min Operating Temperature: -55°C; Max Operating Temperature: 155°C; Tolerance: 5%; Packaging: Tape and Reel; Voltage Rating: 75V; Resistor Type: Thick Film; Number of Terminations: 2; Termination: SMD/SMT; Max Power Dissipation: 100mW; Features: Automotive AEC-Q200; Series: CRCW; Resistance Tolerance: 5%; Package Quantity: 1; Construction: Rectangular; Length: 1.55mm; Width: 0.033inch; Height: 0.02inch; Depth: 0.85mm; Ratings: AEC-Q200; Radiation Hardening: No; RoHS Compliant: Yes; Reach SVHC Compliant: Unknown; Lead Free: 5697LeadFree; Military Standard: Not; ComponentLink1URL: https://datasheet.ciiva.com/2461/dcrcwe3-2461973.pdf?src-supplier=Digikey; ComponentLink1Description: https://datasheet.ciiva.com/2461/dcrcwe3-2461973.pdf?src-supplier=Digikey; ComponentLink2URL: https://datasheet.ciiva.com/16755/70201119-16755717.pdf?src-supplier=Allied+Electronics; ComponentLink2Description: https://datasheet.ciiva.com/16755/70201119-16755717.pdf?src-supplier=Allied+Electronics; ComponentLink3URL: https://datasheet.ciiva.com/3256/dcrcwe3-3256942.pdf?src-supplier=Avnet; ComponentLink3Description: https://datasheet.ciiva.com/3256/dcrcwe3-3256942.pdf?src-supplier=Avnet; ComponentLink4URL: https://datasheet.ciiva.com/16771/70201119-16771051.pdf?src-supplier=Allied+Electronics; ComponentLink4Description: https://datasheet.ciiva.com/16771/70201119-16771051.pdf?src-supplier=Allied+Electronics; ComponentLink5URL: https://datasheet.ciiva.com/3256/dcrcwe3-3256943.pdf?src-supplier=Avnet; ComponentLink5Description: https://datasheet.ciiva.com/3256/dcrcwe3-3256943.pdf?src-supplier=Avnet; ComponentLink6URL: https://datasheet.ciiva.com/16343/dcrcwe3-16343525.pdf?src-supplier=Future+Electronics; ComponentLink6Description: https://datasheet.ciiva.com/16343/dcrcwe3-16343525.pdf?src-supplier=Future+Electronics; ComponentLink7URL: https://datasheet.ciiva.com/2461/dcrcwe3-2461972.pdf?src-supplier=Digikey; ComponentLink7Description: https://datasheet.ciiva.com/2461/dcrcwe3-2461972.pdf?src-supplier=Digikey; ComponentLink8URL: https://datasheet.ciiva.com/2461/dcrcwe3-2461971.pdf?src-supplier=Digikey; ComponentLink8Description: https://datasheet.ciiva.com/2461/dcrcwe3-2461971.pdf?src-supplier=Digikey
footprint R_0603
pins: 1, 2

## R_10M_%1_1/10W_0603
designator R?, comment value 10M  (hidden comment: CRCW060310M0FKEA)
SMD Chip Resistor, 10 MOhm, ± 1%, 100 mW, 0603 [1608 Metric], Thick Film, General Purpose; Manufacturer: Vishay; Power Rating: 100mW; Voltage Rating: 75V; Temperature Coefficient: 100ppm/°C; Supplier: Mouser; Supplier Part Number: 71-CRCW0603-10M-E3; Manufacturer Part Number: CRCW060310M0FKEA; RoHS: Yes; Category: Chip SMD Resistors; Stock: 48064; Pricing: 1=0,1, 10=0,017, 50=0,017, 100=0,01, 1000=0,007, 10000=0,003 (USD); Case/Package: 0603; Weight: 7.1E-05oz; Case Code (Imperial): 0603; Case Code (Metric): 1608; Contact Plating: Tin; Min Operating Temperature: -55°C; Max Operating Temperature: 155°C; Resistor Type: Thick Film; Tolerance: 1%; Packaging: Tape and Reel; Package Quantity: 5000; Termination: SMD/SMT; Working Voltage: 75V; Number of Terminations: 2; Features: Automotive AEC-Q200; Series: CRCW; Max Power Dissipation: 100mW; Resistance Tolerance: 1%; Technology: THICK FILM; Construction: Rectangular; Voltage Rating (DC): 75V; Length: 1.55mm; Width: 0.85mm; Height: 0.45mm; Depth: 0.85mm; Ratings: AEC-Q200; Radiation Hardening: No; Lead Free: 5697LeadFree; Military Standard: Not; RoHS Compliant: Yes; Reach SVHC Compliant: Unknown; ComponentLink1URL: https://datasheet.ciiva.com/11808/0900766b80d98afc-11808549.pdf?src-supplier=Rs; ComponentLink1Description: https://datasheet.ciiva.com/11808/0900766b80d98afc-11808549.pdf?src-supplier=Rs; ComponentLink2URL: https://datasheet.ciiva.com/7673/1720486-7673454.pdf?src-supplier=Element14; ComponentLink2Description: https://datasheet.ciiva.com/7673/1720486-7673454.pdf?src-supplier=Element14; ComponentLink3URL: https://datasheet.ciiva.com/26314/fld-crcw-e3-data-en-26314629.pdf?src-supplier=Distrelec; ComponentLink3Description: https://datasheet.ciiva.com/26314/fld-crcw-e3-data-en-26314629.pdf?src-supplier=Distrelec; ComponentLink4URL: https://datasheet.ciiva.com/7673/1697337-7673286.pdf?src-supplier=Element14; ComponentLink4Description: https://datasheet.ciiva.com/7673/1697337-7673286.pdf?src-supplier=Element14; ComponentLink5URL: https://datasheet.ciiva.com/16786/70201119-16786489.pdf?src-supplier=Allied+Electronics; ComponentLink5Description: https://datasheet.ciiva.com/16786/70201119-16786489.pdf?src-supplier=Allied+Electronics; ComponentLink6URL: https://datasheet.ciiva.com/5543/dcrcwe3-109170-5543450.pdf?src-supplier=Mouser; ComponentLink6Description: https://datasheet.ciiva.com/5543/dcrcwe3-109170-5543450.pdf?src-supplier=Mouser; ComponentLink7URL: https://datasheet.ciiva.com/3256/dcrcwe3-3256952.pdf?src-supplier=Avnet; ComponentLink7Description: https://datasheet.ciiva.com/3256/dcrcwe3-3256952.pdf?src-supplier=Avnet; ComponentLink8URL: https://datasheet.ciiva.com/16200/dcrcwe3-16200110.pdf?src-supplier=Future+Electronics; ComponentLink8Description: https://datasheet.ciiva.com/16200/dcrcwe3-16200110.pdf?src-supplier=Future+Electronics
footprint R_0603
pins: 1, 2

## R_28.7OHM_%1_3/4W_2010
designator R?, comment value 28.7R  (hidden comment: CRCW201028R7FKEF)
SMD Chip Resistor, 28.7 Ohm, ± 1%, 750 mW, 2010 [5025 Metric], Thick Film, General Purpose; Manufacturer: Vishay Dale; Supplier: Mouser; Supplier Part Number: 71-CRCW201028R7FKEF; Manufacturer Part Number: CRCW201028R7FKEF; RoHS: Yes; Category: Chip SMD Resistors; Stock: 2759; Pricing: 1=0,25, 10=0,091, 50=0,091, 100=0,058, 1000=0,045, 10000=0,03 (USD); ComponentLink1URL: https://datasheet.ciiva.com/2477/dcrcwe3-2477004.pdf?src-supplier=Digikey; ComponentLink1Description: https://datasheet.ciiva.com/2477/dcrcwe3-2477004.pdf?src-supplier=Digikey; ComponentLink2URL: https://datasheet.ciiva.com/2477/dcrcwe3-2477005.pdf?src-supplier=Digikey; ComponentLink2Description: https://datasheet.ciiva.com/2477/dcrcwe3-2477005.pdf?src-supplier=Digikey; ComponentLink3URL: https://datasheet.ciiva.com/2477/dcrcwe3-2477006.pdf?src-supplier=Digikey; ComponentLink3Description: https://datasheet.ciiva.com/2477/dcrcwe3-2477006.pdf?src-supplier=Digikey
footprint R_2010
pins: 1, 2

## R_51K_%5_1/10W_0603
designator R?, comment value 51K  (hidden comment: CRCW060351K0JNEA)
SMD Chip Resistor, 51 kOhm, ± 5%, 100 mW, 0603 [1608 Metric], Thick Film, General Purpose; Manufacturer: Vishay Dale; Power Rating: 100mW; Temperature Coefficient: 200ppm/°C; Voltage Rating: 75V; Supplier: Mouser; Supplier Part Number: 71-CRCW0603J-51K-E3; Manufacturer Part Number: CRCW060351K0JNEA; RoHS: Yes; Category: Chip SMD Resistors; Stock: 13555; Pricing: 1=0,1, 10=0,016, 50=0,016, 100=0,009, 1000=0,007, 10000=0,004 (USD); Case/Package: 0603; Pins: 2; Weight: 7.1E-05oz; Case Code (Metric): 1608; Case Code (Imperial): 0603; Contact Plating: Tin; Min Operating Temperature: -55°C; Max Operating Temperature: 155°C; Tolerance: 5%; Packaging: Tape and Reel; Package Quantity: 1; Number of Terminations: 2; Termination: SMD/SMT; Max Power Dissipation: 100mW; Features: Automotive AEC-Q200; Series: CRCW; Resistor Type: Thick Film; Working Voltage: 75V; Construction: Rectangular; Resistance Tolerance: 5%; Technology: THICK FILM; Voltage Rating (DC): 75V; Length: 1.55mm; Width: 0.033inch; Height: 0.45mm; Depth: 0.85mm; Radiation Hardening: No; RoHS Compliant: Yes; Lead Free: 5697LeadFree; Military Standard: Not; Reach SVHC Compliant: Unknown; ComponentLink1URL: https://datasheet.ciiva.com/2462/dcrcwe3-2462332.pdf?src-supplier=Digikey; ComponentLink1Description: https://datasheet.ciiva.com/2462/dcrcwe3-2462332.pdf?src-supplier=Digikey; ComponentLink2URL: https://datasheet.ciiva.com/2462/dcrcwe3-2462333.pdf?src-supplier=Digikey; ComponentLink2Description: https://datasheet.ciiva.com/2462/dcrcwe3-2462333.pdf?src-supplier=Digikey; ComponentLink3URL: https://datasheet.ciiva.com/2462/dcrcwe3-2462331.pdf?src-supplier=Digikey; ComponentLink3Description: https://datasheet.ciiva.com/2462/dcrcwe3-2462331.pdf?src-supplier=Digikey; ComponentLink4URL: https://datasheet.ciiva.com/16759/70201119-16759035.pdf?src-supplier=Allied+Electronics; ComponentLink4Description: https://datasheet.ciiva.com/16759/70201119-16759035.pdf?src-supplier=Allied+Electronics; ComponentLink5URL: https://datasheet.ciiva.com/5542/dcrcwe3-109170-5542427.pdf?src-supplier=Mouser; ComponentLink5Description: https://datasheet.ciiva.com/5542/dcrcwe3-109170-5542427.pdf?src-supplier=Mouser; ComponentLink6URL: https://datasheet.ciiva.com/8337/dcrcwe3-8337247.pdf?src-supplier=Avnet; ComponentLink6Description: https://datasheet.ciiva.com/8337/dcrcwe3-8337247.pdf?src-supplier=Avnet
footprint R_0603
pins: 1, 2

## R_100K_%1_1/8W_0805
designator R?, comment value 100K  (hidden comment: CRCW0805100KFKEA)
SMD Chip Resistor, 100 kOhm, ± 1%, 125 mW, 0805 [2012 Metric], Thick Film, General Purpose; Manufacturer: Vishay; Voltage Rating (DC): 150V; Power Rating: 125mW; Temperature Coefficient: 100ppm/°C; Supplier: Mouser; Supplier Part Number: 71-CRCW0805-100K-E3; Manufacturer Part Number: CRCW0805100KFKEA; RoHS: Yes; Category: Chip SMD Resistors; Stock: 147322; Pricing: 1=0,1, 10=0,025, 50=0,025, 100=0,015, 1000=0,011, 10000=0,007 (USD); Case/Package: 0805; Pins: 2; Weight: 0.000194oz; Case Code (Imperial): 0805; Case Code (Metric): 2012; Contact Plating: Tin; Min Operating Temperature: -55°C; Max Operating Temperature: 155°C; Tolerance: 1%; Resistor Type: Thick Film; Packaging: Tape and Reel; Voltage Rating: 150V; Package Quantity: 5000; Termination: SMD/SMT; Features: Automotive AEC-Q200; Series: CRCW; Max Power Dissipation: 125mW; Number of Terminations: 2; Technology: THICK FILM; Construction: Rectangular; Resistance Tolerance: 1%; Length: 2mm; Width: 1.25mm; Height: 0.45mm; Depth: 1.25mm; Ratings: AEC-Q200; Radiation Hardening: No; Lead Free: 5697LeadFree; Military Standard: Not; RoHS Compliant: Yes; Reach SVHC Compliant: Unknown; ComponentLink1URL: https://datasheet.ciiva.com/7777/1697337-7777349.pdf?src-supplier=Element14; ComponentLink1Description: https://datasheet.ciiva.com/7777/1697337-7777349.pdf?src-supplier=Element14
footprint R_0805
pins: 1, 2

## R_100K_%5_1/10W_0603
designator R?, comment value 100K  (hidden comment: CRCW0603100KJNEA)
SMD Chip Resistor, 100 kOhm, ± 5%, 100 mW, 0603 [1608 Metric], Thick Film, General Purpose; Manufacturer: Vishay; Voltage Rating: 75V; Power Rating: 100mW; Temperature Coefficient: 200ppm/°C; Supplier: Mouser; Supplier Part Number: 71-CRCW0603J-100K-E3; Manufacturer Part Number: CRCW0603100KJNEA; RoHS: Yes; Category: Chip SMD Resistors; Stock: 65417; Pricing: 1=0,1, 10=0,016, 50=0,016, 100=0,009, 1000=0,007, 10000=0,003 (USD); Mounting Technology: Surface Mount; Case/Package: 0603; Pins: 2; Weight: 7.1E-05oz; Case Code (Imperial): 0603; Case Code (Metric): 1608; Contact Plating: Tin; Min Operating Temperature: -55°C; Max Operating Temperature: 155°C; Tolerance: 5%; Packaging: Tape and Reel; Package Quantity: 5000; Resistor Type: Thick Film; Number of Terminations: 2; Termination: SMD/SMT; Max Power Dissipation: 100mW; Working Voltage: 75V; Features: Automotive AEC-Q200; Series: CRCW; Resistance Tolerance: 5%; Technology: THICK FILM; Construction: Rectangular; Length: 1.55mm; Width: 0.85mm; Height: 0.45mm; Depth: 0.85mm; Ratings: AEC-Q200; Radiation Hardening: No; Lead Free: 5697LeadFree; Military Standard: Not; RoHS Compliant: Yes; Reach SVHC Compliant: Unknown; ComponentLink1URL: https://datasheet.ciiva.com/5852/1533075-5852048.pdf?src-supplier=Farnell; ComponentLink1Description: https://datasheet.ciiva.com/5852/1533075-5852048.pdf?src-supplier=Farnell; ComponentLink2URL: https://datasheet.ciiva.com/16783/70201119-16783119.pdf?src-supplier=Allied+Electronics; ComponentLink2Description: https://datasheet.ciiva.com/16783/70201119-16783119.pdf?src-supplier=Allied+Electronics; ComponentLink3URL: https://datasheet.ciiva.com/7777/1533075-7777272.pdf?src-supplier=Element14; ComponentLink3Description: https://datasheet.ciiva.com/7777/1533075-7777272.pdf?src-supplier=Element14; ComponentLink4URL: https://datasheet.ciiva.com/46441/1533075-46441621.pdf?src-supplier=Element14; ComponentLink4Description: https://datasheet.ciiva.com/46441/1533075-46441621.pdf?src-supplier=Element14; ComponentLink5URL: https://datasheet.ciiva.com/28621/1747939-28621367.pdf?src-supplier=Element14; ComponentLink5Description: https://datasheet.ciiva.com/28621/1747939-28621367.pdf?src-supplier=Element14; ComponentLink6URL: https://datasheet.ciiva.com/2461/dcrcwe3-2461981.pdf?src-supplier=Digikey; ComponentLink6Description: https://datasheet.ciiva.com/2461/dcrcwe3-2461981.pdf?src-supplier=Digikey; ComponentLink7URL: https://datasheet.ciiva.com/2461/dcrcwe3-2461982.pdf?src-supplier=Digikey; ComponentLink7Description: https://datasheet.ciiva.com/2461/dcrcwe3-2461982.pdf?src-supplier=Digikey; ComponentLink8URL: https://datasheet.ciiva.com/2461/dcrcwe3-2461980.pdf?src-supplier=Digikey; ComponentLink8Description: https://datasheet.ciiva.com/2461/dcrcwe3-2461980.pdf?src-supplier=Digikey; ComponentLink9URL: https://datasheet.ciiva.com/16767/70201119-16767110.pdf?src-supplier=Allied+Electronics; ComponentLink9Description: https://datasheet.ciiva.com/16767/70201119-16767110.pdf?src-supplier=Allied+Electronics; ComponentLink10URL: https://datasheet.ciiva.com/26820/getdatasheetpartid-30055-26820934.pdf?src-supplier=Verical; ComponentLink10Description: https://datasheet.ciiva.com/26820/getdatasheetpartid-30055-26820934.pdf?src-supplier=Verical
footprint R_0603
pins: 1, 2